# EAGLE library part M06_MAG (library custom)
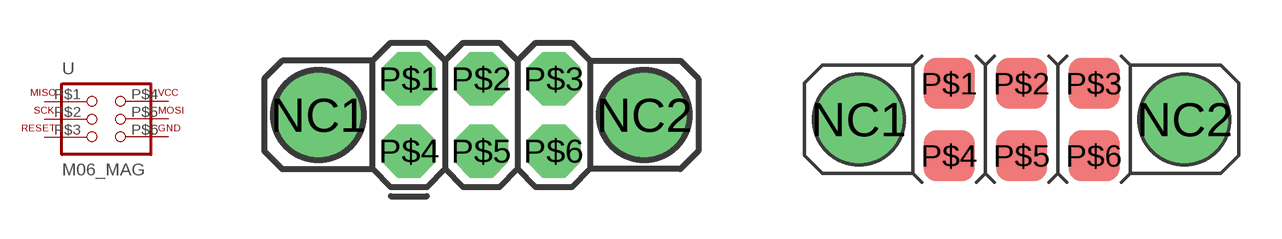
[diagram p1: symbol with the pads of M06_MAG; footprints M06_MAG, F06_MAG]

Designator prefix -

## M06_MAGM  [M06_MAG]
P$1  MISO  pas
P$2  SCK  pas
P$3  RESET  pas
P$4  VCC  pas
P$5  MOSI  pas
P$6  GND  pas

## M06_MAGF  [F06_MAG]
P$1  RESET  pas
P$2  SCK  pas
P$3  MISO  pas
P$4  GND  pas
P$5  MOSI  pas
P$6  VCC  pas

## Footprint M06_MAG (pad centres in mm)
drill 1.016 pad 3.302: NC1 -5.715,0; NC2 5.715,0
drill 1.016 pad 1.88 octagon: P$1 -2.54,1.27; P$2 0,1.27; P$3 2.54,1.27; P$4 -2.54,-1.27; P$5 0,-1.27; P$6 2.54,-1.27

## Footprint F06_MAG (pad centres in mm)
drill 1.016 pad 3.302: NC1 -5.715,0; NC2 5.715,0
smd 1.778 x 1.778: P$1 -2.54,1.27; P$2 0,1.27; P$3 2.54,1.27; P$4 -2.54,-1.27; P$5 0,-1.27; P$6 2.54,-1.27